# Altium footprint library PCB - CONNECTOR - HARWIN - HARWIN M20-7831045.PcbLib: 1 footprints
Each footprint in its own frame and in the unit in brackets; x right, y up, seen from the top. Pads: shape width x height; smd on the part's side, far side on the other; paste and mask are expansions set on the pad; w line width, h text height; cw(c..) or ccw(c..) is an arc to the next point about the centre after c.
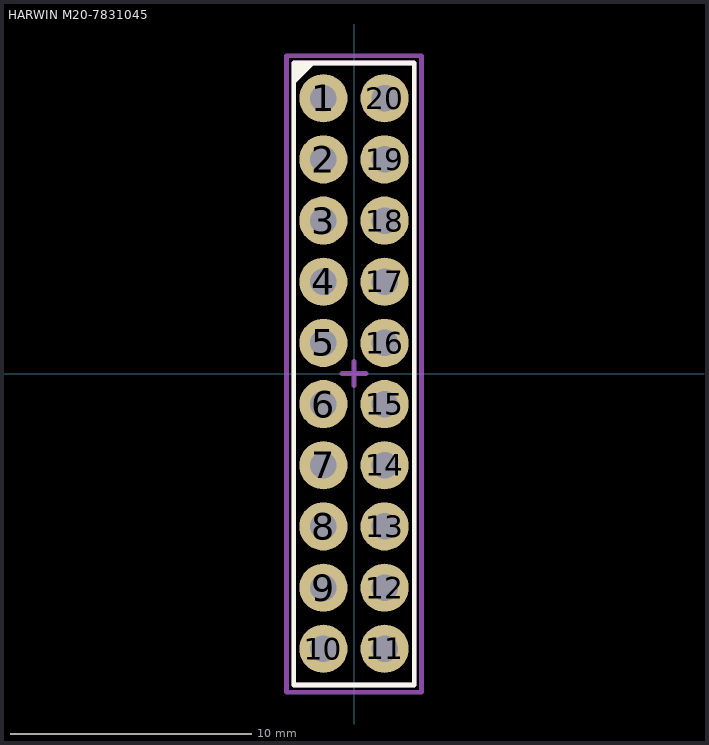
[diagram p0: the footprint, top view; thin cyan lines are the x and y axes]

## HARWIN M20-7831045 [mm] "2.54mm DIL PC TAIL PIN HEADER ASSEMBLY"
height 5
pads (20):
  round 2 hole 1.1: 1(-1.27,11.43) 2(-1.27,8.89) 3(-1.27,6.35) 4(-1.27,3.81) 5(-1.27,1.27) 6(-1.27,-1.27) 7(-1.27,-3.81) 8(-1.27,-6.35) 9(-1.27,-8.89) 10(-1.27,-11.43) 11(1.27,-11.43) 12(1.27,-8.89) 13(1.27,-6.35) 14(1.27,-3.81) 15(1.27,-1.27) 16(1.27,1.27) 17(1.27,3.81) 18(1.27,6.35) 19(1.27,8.89) 20(1.27,11.43)
Top Overlay:
  region: -2.5,12.89 -2.5,11.99 -1.6,12.89
  lines w0.2: -2.5,-12.93 -2.5,12.89 2.5,12.89 2.5,-12.93 -2.5,-12.93
Top Assembly:
  lines w0.2: -0.5,0 0.5,0 ; 0,-0.5 0,0.5 ; -2.5,-12.93 -2.5,12.89 2.5,12.89 2.5,-12.93 -2.5,-12.93
Top Courtyard (Mech15):
  lines w0.2: -2.8,-13.23 -2.8,13.19 2.8,13.19 2.8,-13.23 -2.8,-13.23
3D body "M20-7831042.step": height 8.5, standoff -3, extent -2.52,-12.9 2.52,12.9